# Altium schematic symbol library SN65C1168EPWR.SchLib: 1 symbol
Pins are listed as number, name and electrical type; pins without a type are passive.

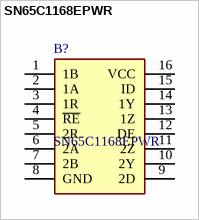
[diagram p0: symbol SN65C1168EPWR]

## SN65C1168EPWR
designator B?
Dual Differential Drivers and Receivers With +/-15-kV IEC ESD Protection; Manufacturer_Name: Texas Instruments; Geometry.Height: 1.2mm; Mouser Part Number: 595-SN65C1168EPWR; Mouser Price/Stock: https://www.mouser.co.uk/ProductDetail/Texas-Instruments/SN65C1168EPWR?qs=qRemG2J%252Bg%2FV5zfprVJi%2FKg%3D%3D; Manufacturer_Part_Number: SN65C1168EPWR; Datasheet Link: http://www.ti.com/lit/gpn/sn65c1168e
footprint SOP65P640X120-16N
pins: 1 1B, 2 1A, 3 1R, 4 ~{RE}, 5 2R, 6 2A, 7 2B, 8 GND, 9 2D, 10 2Y, 11 2Z, 12 DE, 13 1Z, 14 1Y, 15 ID, 16 VCC